# Altium footprint library Sch1-pcblib.PcbLib: 19 footprints (part 1 of 2)
Each footprint in its own frame and in the unit in brackets; x right, y up, seen from the top. Pads: shape width x height; smd on the part's side, far side on the other; paste and mask are expansions set on the pad; w line width, h text height; cw(c..) or ccw(c..) is an arc to the next point about the centre after c.
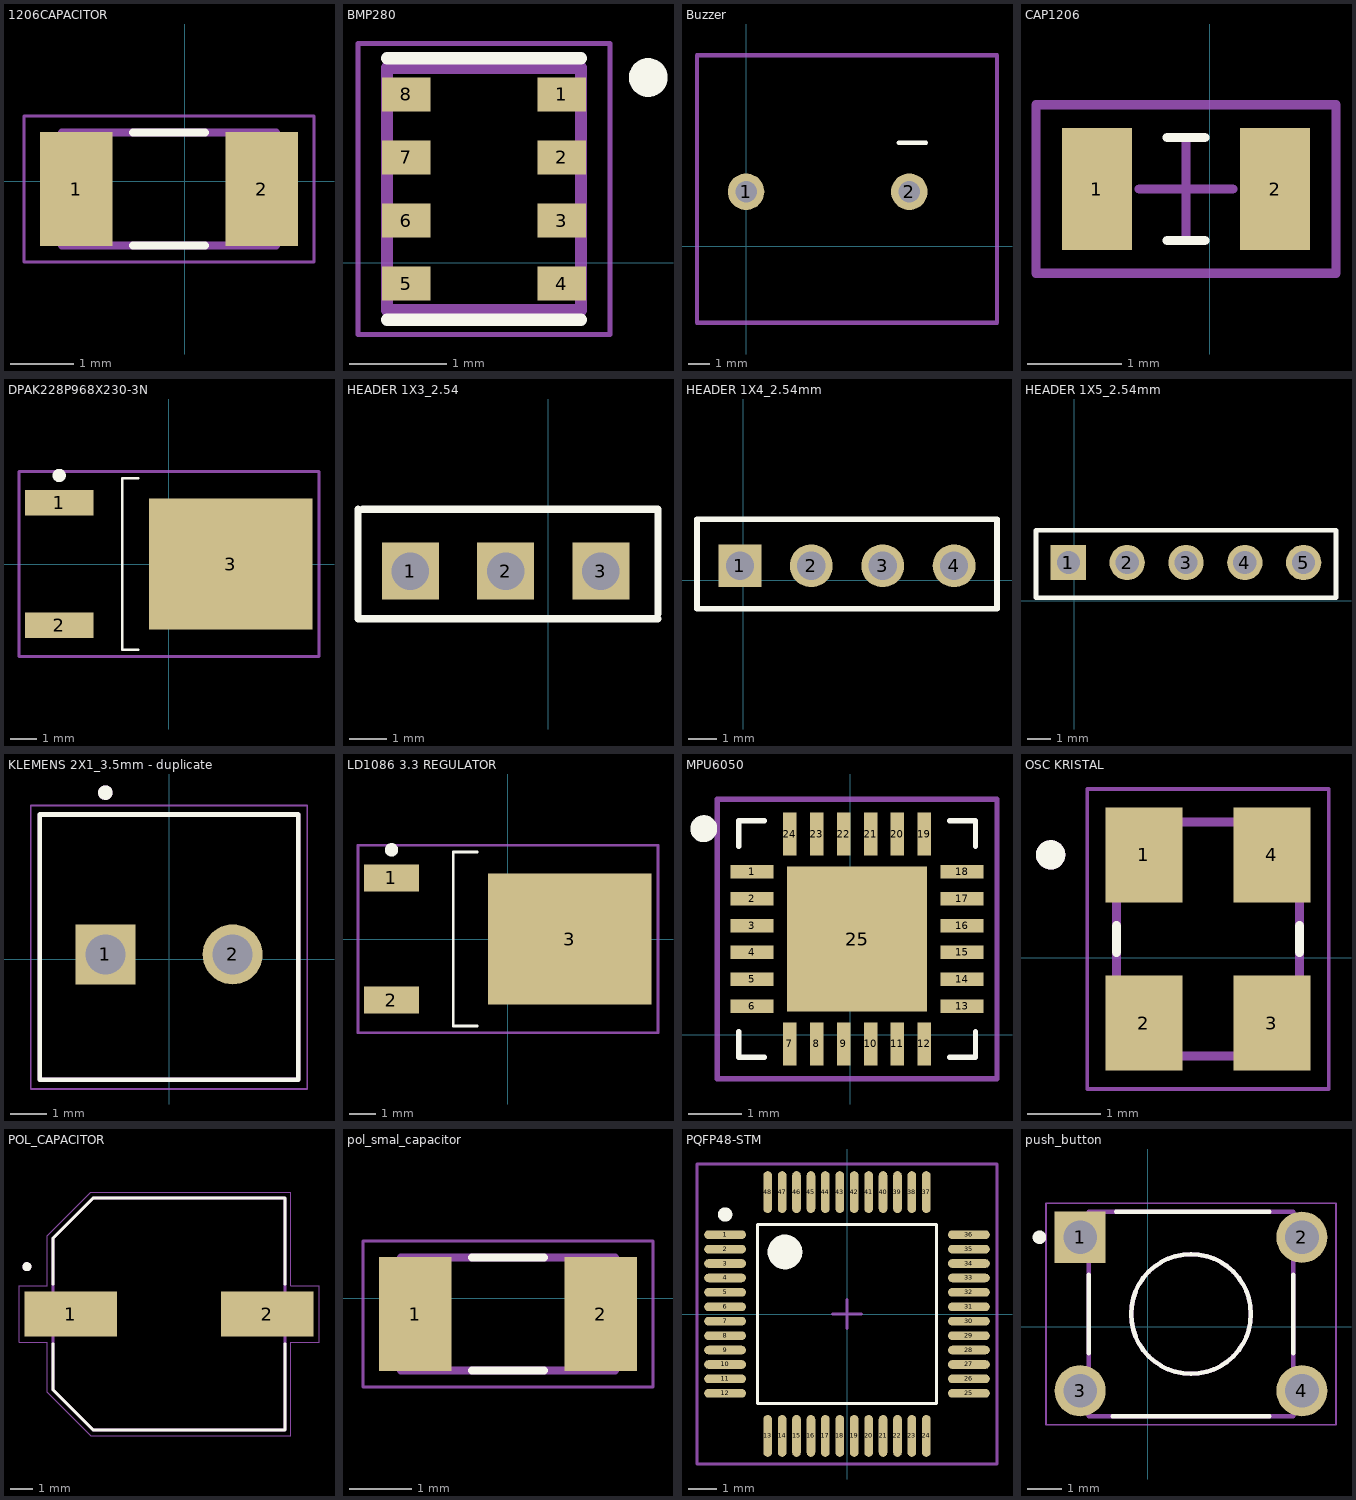
[diagram p0: the footprints below, top view; thin cyan lines are the x and y axes]

## 1206CAPACITOR [mm]
pads (2):
  rect 1.16x1.82 smd: 1(-1.729,-0.127) 2(1.221,-0.127)
Top Overlay:
  lines w0.127: -0.824,-1.027 0.316,-1.027 ; -0.824,0.773 0.316,0.773
Mechanical 13:
  lines w0.127: -1.954,-1.027 -1.954,0.773 1.446,0.773 1.446,-1.027 -1.954,-1.027
Mechanical 15:
  lines w0.05: -2.562,-1.285 -2.562,1.031 2.054,1.031 2.054,-1.285 -2.562,-1.285
3D body "C1206C224J3REC.STEP": height 1, standoff 0, extent -1.727,-0.927 1.473,0.673

## BMP280 [mm] "gyro ve ivmeölçer"
pads (8):
  rect 0.5x0.35 smd: 1(-1.613,1.737) 2(-1.613,1.087) 3(-1.613,0.437) 4(-1.613,-0.213) 5(-3.213,-0.213) 6(-3.213,0.437) 7(-3.213,1.087) 8(-3.213,1.737)
Top Overlay:
  circle w0.2: c-0.718,1.912 r0.1
  lines w0.127: -3.413,-0.588 -1.413,-0.588 ; -3.413,2.112 -1.413,2.112
Mechanical 13:
  lines w0.127: -3.413,-0.488 -1.413,-0.488 -1.413,2.012 -3.413,2.012 -3.413,-0.488
Mechanical 15:
  lines w0.05: -3.713,-0.738 -3.713,2.262 -1.113,2.262 -1.113,-0.738 -3.713,-0.738
3D body "BMP280--3DModel-STEP-1.STEP": height 1, standoff 0, extent -3.413,-0.488 -1.413,2.012

## Buzzer [mm]
pads (2):
  round 1.7 hole 1: 1(0,2.54) 2(7.6,2.54)
Top Overlay:
  lines w0.2: 7.112,4.826 8.382,4.826
Mechanical 15:
  lines w0.2: -2.286,-3.556 -2.286,8.89 -2.032,8.89 11.684,8.89 11.684,-3.556 -2.286,-3.556
3D body "AI-1223-TWT-12V-R--3DModel-STEP-1.STEP": height 10.05, standoff -5.5, extent -2.021,-3.36 11.419,8.638

## CAP1206 [mm]
pads (2):
  rect 0.75x1.3 smd: 1(-1.204,-2.413) 2(0.696,-2.413)
Top Overlay:
  lines w0.1: -0.454,-2.963 -0.054,-2.963 ; -0.454,-1.863 -0.054,-1.863
Mechanical 3:
  lines w0.1: -0.754,-2.413 0.246,-2.413 ; -0.254,-2.913 -0.254,-1.913 ; -1.854,-3.313 -1.854,-1.513 1.346,-1.513 1.346,-3.313 -1.854,-3.313
3D body: height 0.6, standoff 0, extent -0.954,-2.988 0.446,-1.838
3D body: height 0.6, standoff 0, extent -1.154,-2.988 -0.954,-1.838
3D body: height 0.6, standoff 0, extent 0.446,-2.988 0.646,-1.838

## DPAK228P968X230-3N [mm] "D-PAK, 3-Pads, Body 6,40x6,56mm (max), IPC Medium Density"
height 2.3
pads (3):
  rect 2.55x0.95 smd: 1(-4.1,2.28) 2(-4.1,-2.28)
  rect 6.1x4.9 smd: 3(2.3,0)
Top Overlay:
  circle w0.25: c-4.1,3.305 r0.125
  lines w0.1: -1.15,-3.2 -1.75,-3.2 -1.75,3.2 -1.15,3.2
Mechanical 3:
  lines w0.1: -0.5,0 0.5,0 ; 0,-0.5 0,0.5 ; -5.6,-3.45 -5.6,3.45 5.6,3.45 5.6,-3.45 -5.6,-3.45
3D body: height 2.3, standoff 1, extent -1.75,-3.2 4.85,3.2

## HEADER 1X3_2.54 [mil]
pads (3):
  rect 60x60 hole 39.37: 1(-145,225) 2(-45,225) 3(55,225)
Top Overlay:
  lines w7.87: -200,290 -200,175 115,175 ; -195,290 -117.5,290 37.5,290 115,290 115,180
3D body "User Library-RM254_3pin.sldprt": height 276.38, standoff -82.68, extent -195,180 105,280

## HEADER 1X4_2.54mm [mil]
pads (4):
  rect 60x60 hole 39.37: 1(-5,20)
  round 60 hole 39.37: 2(95,20) 3(195,20) 4(295,20)
Top Overlay:
  lines w7.87: -65,-40 355,-40 355,85 -65,85 -65,-40
3D body "User Library-RM254_4pin.sldprt": height 276.38, standoff -82.68, extent -55,-30 345,70

## HEADER 1X5_2.54mm [mil]
pads (6):
  rect 60x60 hole 39.37: 1(-10,65) 1(-10,65)
  round 60 hole 39.37: 2(90,65) 3(190,65) 4(290,65) 5(390,65)
Top Overlay:
  lines w7.87: -65,5 -65,120 445,120 445,5 -65,5
3D body "User Library-RM254_5pin.sldprt": height 276.38, standoff -82.68, extent -60,10 440,110

## KLEMENS 2X1_3.5mm - duplicate [mm]
pads (2):
  rect 1.65x1.65 / inner round 1.65 / far side rect 1.65x1.65 hole 1.1: 1(-1.75,0.127)
  round 1.65 hole 1.1: 2(1.75,0.127)
Top Overlay:
  circle w0.2: c-1.75,4.577 r0.1
  lines w0.127: -3.55,-3.323 -3.55,3.977 3.55,3.977 3.55,-3.323 -3.55,-3.323
Mechanical 13:
  circle w0.2: c-1.75,4.577 r0.1
  lines w0.127: -3.55,-3.323 -3.55,3.977 3.55,3.977 3.55,-3.323 -3.55,-3.323
Mechanical 15:
  lines w0.05: -3.8,-3.573 -3.8,4.227 3.8,4.227 3.8,-3.573 -3.8,-3.573
3D body "1546551-2--3DModel-STEP-269445.STEP": height 8.5, standoff -3.5, extent -3.5,-3.469 3.5,3.831

## LD1086 3.3 REGULATOR [mm] "D-PAK, 3-Pads, Body 6,15x6,61mm (max), IPC Medium Density"
height 2.3
pads (3):
  rect 2.05x1 smd: 1(-4.35,2.28) 2(-4.35,-2.28)
  rect 6.1x4.9 smd: 3(2.3,0)
Top Overlay:
  circle w0.25: c-4.35,3.33 r0.125
  lines w0.1: -1.15,-3.25 -2.05,-3.25 -2.05,3.25 -1.15,3.25
Mechanical 3:
  lines w0.1: -0.5,0 0.5,0 ; 0,-0.5 0,0.5 ; -5.6,-3.5 -5.6,3.5 5.6,3.5 5.6,-3.5 -5.6,-3.5
3D body: height 2.3, standoff 1, extent -2.05,-3.25 4.05,3.25

## MPU6050 [mm] "ivme gyro ölçer"
pads (25):
  rect 0.8x0.25 smd mask+0.05: 1(-1.823,3.028) 2(-1.823,2.528) 3(-1.823,2.028) 4(-1.823,1.528) 5(-1.823,1.028) 6(-1.823,0.528) 13(2.077,0.528) 14(2.077,1.028) 15(2.077,1.528) 16(2.077,2.028) 17(2.077,2.528) 18(2.077,3.028)
  rect 0.25x0.8 smd mask+0.05: 7(-1.123,-0.172) 8(-0.623,-0.172) 9(-0.123,-0.172) 10(0.377,-0.172) 11(0.877,-0.172) 12(1.377,-0.172) 19(1.377,3.728) 20(0.877,3.728) 21(0.377,3.728) 22(-0.123,3.728) 23(-0.623,3.728) 24(-1.123,3.728)
  rect 2.6x2.7 smd: 25(0.127,1.778)
Top Overlay:
  circle w0.25: c-2.723,3.828 r0.125
  lines w0.1: -2.073,0.053 -2.073,-0.422 -1.598,-0.422 ; -2.073,3.503 -2.073,3.978 -1.598,3.978 ; 1.852,-0.422 2.327,-0.422 2.327,0.053 ; 1.852,3.978 2.327,3.978 2.327,3.503
Mechanical 3:
  lines w0.1: -0.373,1.778 0.627,1.778 ; 0.127,1.278 0.127,2.278 ; -2.473,-0.822 2.727,-0.822 2.727,4.378 -2.473,4.378 -2.473,-0.822
3D body "MPU6050-QFP.step": height 0.9, standoff 0, extent -1.943,-0.292 2.197,3.848

## OSC KRISTAL [mm]
pads (4):
  rect 1.05x1.3 smd: 1(-3.542,1.404) 2(-3.542,-0.896) 3(-1.792,-0.896) 4(-1.792,1.404)
Top Overlay:
  circle w0.2: c-4.817,1.404 r0.1
  lines w0.127: -3.917,0.074 -3.917,0.434 ; -1.417,0.074 -1.417,0.434
Mechanical 13:
  circle w0.2: c-4.817,1.404 r0.1
  lines w0.127: -3.917,-1.346 -1.417,-1.346 -1.417,1.854 -3.917,1.854 -3.917,-1.346
Mechanical 15:
  lines w0.05: -4.317,-1.796 -1.017,-1.796 -1.017,2.304 -4.317,2.304 -4.317,-1.796
3D body "step_temp.STEP": height 0.8, standoff 0, extent -3.917,-1.346 -1.417,1.854

## POL_CAPACITOR [mm]
pads (2):
  rect 4.1x2 smd: 1(-647.478,-961.898) 2(-638.778,-961.898)
Top Overlay:
  circle w0.2: c-649.428,-959.798 r0.1
  lines w0.127: -648.278,-963.218 -648.278,-965.248 -646.478,-967.048 -637.978,-967.048 -637.978,-963.218 ; -648.278,-960.578 -648.278,-958.548 -646.478,-956.748 -637.978,-956.748 -637.978,-960.578
Mechanical 13:
  circle w0.2: c-649.428,-959.798 r0.1
  lines w0.127: -648.278,-965.248 -646.478,-967.048 -637.978,-967.048 -637.978,-956.748 -646.478,-956.748 -648.278,-958.548 -648.278,-965.248
Mechanical 15:
  lines w0.05: -649.778,-963.148 -649.778,-960.648 -648.528,-960.648 -648.528,-958.423 -646.603,-956.498 -637.728,-956.498 -637.728,-960.648 -636.478,-960.648 -636.478,-963.148 -637.728,-963.148 -637.728,-967.298 -646.603,-967.298 -648.528,-965.373 -648.528,-963.148 -649.778,-963.148
3D body "step_temp.STEP": height 10.3, standoff 0.1, extent -648.978,-967.048 -637.278,-956.748

## pol_smal_capacitor [mm]
pads (2):
  rect 1.16x1.82 smd: 1(-456.008,-0.254) 2(-453.058,-0.254)
Top Overlay:
  lines w0.127: -455.103,-1.154 -453.963,-1.154 ; -455.103,0.646 -453.963,0.646
Mechanical 13:
  lines w0.127: -456.233,-1.154 -452.833,-1.154 -452.833,0.646 -456.233,0.646 -456.233,-1.154
Mechanical 15:
  lines w0.05: -456.841,-1.412 -452.225,-1.412 -452.225,0.904 -456.841,0.904 -456.841,-1.412
3D body "C1206C224J3REC.STEP": height 1, standoff 0, extent -456.006,-1.054 -452.806,0.546

## PQFP48-STM [mm] "TSQFP, 48-Leads, Body 7,00x7,00mm, Pitch 0,50mm, IPC Medium Density"
height 1.6
pads (48):
  oval 1.45x0.3 smd mask+0.05: 1(-4.225,2.75) 2(-4.225,2.25) 3(-4.225,1.75) 4(-4.225,1.25) 5(-4.225,0.75) 6(-4.225,0.25) 7(-4.225,-0.25) 8(-4.225,-0.75) 9(-4.225,-1.25) 10(-4.225,-1.75) 11(-4.225,-2.25) 12(-4.225,-2.75) 25(4.225,-2.75) 26(4.225,-2.25) 27(4.225,-1.75) 28(4.225,-1.25) 29(4.225,-0.75) 30(4.225,-0.25) 31(4.225,0.25) 32(4.225,0.75) 33(4.225,1.25) 34(4.225,1.75) 35(4.225,2.25) 36(4.225,2.75)
  oval 0.3x1.45 smd mask+0.05: 13(-2.75,-4.225) 14(-2.25,-4.225) 15(-1.75,-4.225) 16(-1.25,-4.225) 17(-0.75,-4.225) 18(-0.25,-4.225) 19(0.25,-4.225) 20(0.75,-4.225) 21(1.25,-4.225) 22(1.75,-4.225) 23(2.25,-4.225) 24(2.75,-4.225) 37(2.75,4.225) 38(2.25,4.225) 39(1.75,4.225) 40(1.25,4.225) 41(0.75,4.225) 42(0.25,4.225) 43(-0.25,4.225) 44(-0.75,4.225) 45(-1.25,4.225) 46(-1.75,4.225) 47(-2.25,4.225) 48(-2.75,4.225)
Top Overlay:
  circle w0.6: c-2.15,2.15 r0.3
  circle w0.25: c-4.225,3.45 r0.125
  lines w0.1: -3.1,-3.1 3.1,-3.1 3.1,3.1 -3.1,3.1 -3.1,-3.1
Mechanical 3:
  lines w0.1: -0.5,0 0.5,0 ; 0,-0.5 0,0.5 ; -5.2,-5.2 5.2,-5.2 5.2,-2.6 5.2,2.6 5.2,5.2 -5.2,5.2 -5.2,-5.2
3D body "PQFP48-STM.step": height 1.6, standoff 0, extent -4.5,-4.5 4.5,4.5

## push_button [mm]
pads (4):
  rect 1.498x1.498 / inner round 1.498 / far side rect 1.498x1.498 hole 0.99: 1(-1.98,2.631)
  round 1.498 hole 0.99: 2(4.52,2.631) 3(-1.98,-1.869) 4(4.52,-1.869)
Top Overlay:
  circle w0.127: c1.27,0.381 r1.755
  circle w0.2: c-3.175,2.631 r0.1
  lines w0.127: -1.725,-0.769 -1.725,1.531 ; -1.03,-2.614 3.57,-2.614 ; -0.93,3.376 3.57,3.376 ; 4.27,-0.769 4.27,1.531
Mechanical 13:
  circle w0.127: c1.27,0.381 r1.755
  lines w0.127: -1.725,-2.614 -1.725,3.376 4.265,3.376 4.265,-2.614 -1.725,-2.614
Mechanical 15:
  lines w0.05: -2.98,-2.869 -2.98,3.631 5.52,3.631 5.52,-2.869 -2.98,-2.869
3D body "step_temp.STEP": height 5.01, standoff -3.51, extent -2.628,-2.614 5.17,3.376